# EAGLE library part F-2X10- (library con-headers-jp)
FEMALE HEADER
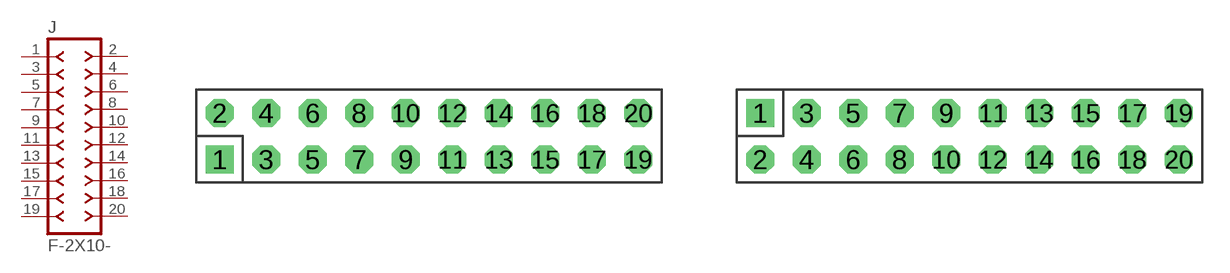
[diagram p43: symbol with the pads of DIL-100-2X10; footprints DIL-100-2X10, DIL-100-2X10_M]

Designator prefix J

## F-2X10-DIL-100  [DIL-100-2X10]
1  1  pas
2  2  pas
3  3  pas
4  4  pas
5  5  pas
6  6  pas
7  7  pas
8  8  pas
9  9  pas
10  10  pas
11  11  pas
12  12  pas
13  13  pas
14  14  pas
15  15  pas
16  16  pas
17  17  pas
18  18  pas
19  19  pas
20  20  pas

## F-2X10-DIL-100_M  [DIL-100-2X10_M]
Pads as for DIL-100-2X10

## F-2X10-DIL-2MM  [DIL-2MM-2X10]
Pads as for DIL-100-2X10

## F-2X10-DIL-2MM_M  [DIL-2MM-2X10_M]
Pads as for DIL-100-2X10

## F-2X10-71991  [71991-20]
Pads as for DIL-100-2X10

## F-2X10-79107  [79107-20]
Pads as for DIL-100-2X10

## F-2X10-79107_M  [79107-20_M]
Pads as for DIL-100-2X10

## Footprint DIL-100-2X10 (pad centres in mm)
PIN HEADER - 0.1"
drill 1.016 square: 1 -11.43,-1.27
drill 1.016 octagon: 2 -11.43,1.27; 3 -8.89,-1.27; 4 -8.89,1.27; 5 -6.35,-1.27; 6 -6.35,1.27; 7 -3.81,-1.27; 8 -3.81,1.27; 9 -1.27,-1.27; 10 -1.27,1.27; 11 1.27,-1.27; 12 1.27,1.27; 13 3.81,-1.27; 14 3.81,1.27; 15 6.35,-1.27; 16 6.35,1.27; 17 8.89,-1.27; 18 8.89,1.27; 19 11.43,-1.27; 20 11.43,1.27

## Footprint DIL-100-2X10_M (pad centres in mm)
PIN HEADER - MIRRORED 0.1"
drill 1.016 square: 1 -11.43,1.27
drill 1.016 octagon: 2 -11.43,-1.27; 3 -8.89,1.27; 4 -8.89,-1.27; 5 -6.35,1.27; 6 -6.35,-1.27; 7 -3.81,1.27; 8 -3.81,-1.27; 9 -1.27,1.27; 10 -1.27,-1.27; 11 1.27,1.27; 12 1.27,-1.27; 13 3.81,1.27; 14 3.81,-1.27; 15 6.35,1.27; 16 6.35,-1.27; 17 8.89,1.27; 18 8.89,-1.27; 19 11.43,1.27; 20 11.43,-1.27

## Footprint DIL-2MM-2X10 (pad centres in mm)
PIN HEADER - 2MM"
drill 0.711 square: 1 -9,-1
drill 0.711: 2 -9,1; 3 -7,-1; 4 -7,1; 5 -5,-1; 6 -5,1; 7 -3,-1; 8 -3,1; 9 -1,-1; 10 -1,1; 11 1,-1; 12 1,1; 13 3,-1; 14 3,1; 15 5,-1; 16 5,1; 17 7,-1; 18 7,1; 19 9,-1; 20 9,1

## Footprint DIL-2MM-2X10_M (pad centres in mm)
PIN HEADER - MIRRORED 2MM
drill 0.711 square: 1 -9,1
drill 0.711: 2 -9,-1; 3 -7,1; 4 -7,-1; 5 -5,1; 6 -5,-1; 7 -3,1; 8 -3,-1; 9 -1,1; 10 -1,-1; 11 1,1; 12 1,-1; 13 3,1; 14 3,-1; 15 5,1; 16 5,-1; 17 7,1; 18 7,-1; 19 9,1; 20 9,-1

## Footprint 71991-20 (pad centres in mm)
FCI - Dual Entry Female Pass Through, 0.1" spacing
drill 0.813 square: 1 -11.43,-3.81
drill 0.813 octagon: 2 -11.43,3.81; 3 -8.89,-3.81; 4 -8.89,3.81; 5 -6.35,-3.81; 6 -6.35,3.81; 7 -3.81,-3.81; 8 -3.81,3.81; 9 -1.27,-3.81; 10 -1.27,3.81; 11 1.27,-3.81; 12 1.27,3.81; 13 3.81,-3.81; 14 3.81,3.81; 15 6.35,-3.81; 16 6.35,3.81; 17 8.89,-3.81; 18 8.89,3.81; 19 11.43,-3.81; 20 11.43,3.81
hole 1.422 at -11.43,-1.27
hole 1.422 at -11.43,1.27
hole 1.422 at -8.89,1.27
hole 1.422 at -8.89,-1.27
hole 1.422 at -6.35,1.27
hole 1.422 at -6.35,-1.27
hole 1.422 at -3.81,1.27
hole 1.422 at -3.81,-1.27
hole 1.422 at -1.27,1.27
hole 1.422 at -1.27,-1.27
hole 1.422 at 1.27,1.27
hole 1.422 at 1.27,-1.27
hole 1.422 at 3.81,1.27
hole 1.422 at 3.81,-1.27
hole 1.422 at 6.35,1.27
hole 1.422 at 6.35,-1.27
hole 1.422 at 8.89,1.27
hole 1.422 at 8.89,-1.27
hole 1.422 at 11.43,1.27
hole 1.422 at 11.43,-1.27

## Footprint 79107-20 (pad centres in mm)
Molex Board-To-Board Receptacal 2.00mm (.079") Pitch Milli-Grid Header, Vertical, Through-Hole Mates with: 87759, 87762, 87758, 87760
drill 0.711 square: 1 -9,-1
drill 0.711: 2 -9,1; 3 -7,-1; 4 -7,1; 5 -5,-1; 6 -5,1; 7 -3,-1; 8 -3,1; 9 -1,-1; 10 -1,1; 11 1,-1; 12 1,1; 13 3,-1; 14 3,1; 15 5,-1; 16 5,1; 17 7,-1; 18 7,1; 19 9,-1; 20 9,1

## Footprint 79107-20_M (pad centres in mm)
Molex Board-To-Board Receptacal - MIRRORED 2.00mm (.079") Pitch Milli-Grid Header, Vertical, Through-Hole Mates with: 87759, 87762, 87758, 87760
drill 0.711 square: 1 -9,1
drill 0.711: 2 -9,-1; 3 -7,1; 4 -7,-1; 5 -5,1; 6 -5,-1; 7 -3,1; 8 -3,-1; 9 -1,1; 10 -1,-1; 11 1,1; 12 1,-1; 13 3,1; 14 3,-1; 15 5,1; 16 5,-1; 17 7,1; 18 7,-1; 19 9,1; 20 9,-1